# EAGLE library part 6RJ11-6LB (library con-tycoelectronics)
CORCOM Modular RJ Jacks L - Ganged Series Source: www.tycoelectronics.com .. ENG_DS_1654001_1099_RJ_L_0507.pdf
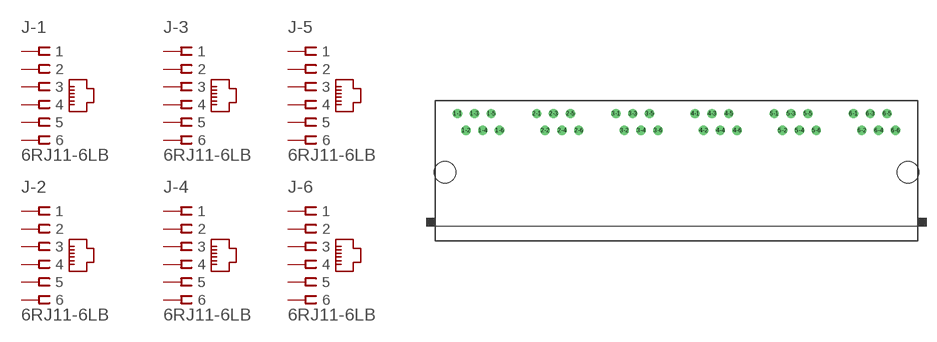
[diagram p1: symbol with the pads of 6RJ11; footprint 6RJ11]

Designator prefix J; gates -1=JACK6 -2=JACK6 -3=JACK6 -4=JACK6 -5=JACK6 -6=JACK6

## 6RJ11-6LB  [6RJ11]
1-1  -1:1  pas
1-2  -1:2  pas
1-3  -1:3  pas
1-4  -1:4  pas
1-5  -1:5  pas
1-6  -1:6  pas
2-1  -2:1  pas
2-2  -2:2  pas
2-3  -2:3  pas
2-4  -2:4  pas
2-5  -2:5  pas
2-6  -2:6  pas
3-1  -3:1  pas
3-2  -3:2  pas
3-3  -3:3  pas
3-4  -3:4  pas
3-5  -3:5  pas
3-6  -3:6  pas
4-1  -4:1  pas
4-2  -4:2  pas
4-3  -4:3  pas
4-4  -4:4  pas
4-5  -4:5  pas
4-6  -4:6  pas
5-1  -5:1  pas
5-2  -5:2  pas
5-3  -5:3  pas
5-4  -5:4  pas
5-5  -5:5  pas
5-6  -5:6  pas
6-1  -6:1  pas
6-2  -6:2  pas
6-3  -6:3  pas
6-4  -6:4  pas
6-5  -6:5  pas
6-6  -6:6  pas

## Footprint 6RJ11 (pad centres in mm)
RJ11 x 6 Source: www.tycoelectronics.com .. ENG_DS_1654001_1099_RJ_L_0507.pdf
drill 0.9 pad 1.4 round: 1-1 -33.02,8.89; 1-2 -31.75,6.35; 1-3 -30.48,8.89; 1-4 -29.21,6.35; 1-5 -27.94,8.89; 1-6 -26.67,6.35; 2-1 -21.082,8.89; 2-2 -19.812,6.35; 2-3 -18.542,8.89; 2-4 -17.272,6.35; 2-5 -16.002,8.89; 2-6 -14.732,6.35; 3-1 -9.144,8.89; 3-2 -7.874,6.35; 3-3 -6.604,8.89; 3-4 -5.334,6.35; 3-5 -4.064,8.89; 3-6 -2.794,6.35; 4-1 2.794,8.89; 4-2 4.064,6.35; 4-3 5.334,8.89; 4-4 6.604,6.35; 4-5 7.874,8.89; 4-6 9.144,6.35; 5-1 14.732,8.89; 5-2 16.002,6.35; 5-3 17.272,8.89; 5-4 18.542,6.35; 5-5 19.812,8.89; 5-6 21.082,6.35; 6-1 26.67,8.89; 6-2 27.94,6.35; 6-3 29.21,8.89; 6-4 30.48,6.35; 6-5 31.75,8.89; 6-6 33.02,6.35
hole 3.251 at -34.925,0
hole 3.251 at 34.925,0